# Altium integrated library 815-0931.IntLib: 1 symbol
Pins are listed as number, name and electrical type; pins without a type are passive.

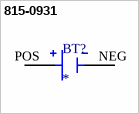
[diagram p0: symbol 815-0931]

## 815-0931
designator BT?
Holder 1/2aa Battery w/o Cover; MP: 815-0931; Package: None; Price: None; Value: *; Availability: Unavailable
footprint BAT_815-0931
pins: NEG, POS